# Altium schematic symbol library 2350514-3.SchLib: 1 symbol
Pins are listed as number, name and electrical type; pins without a type are passive.

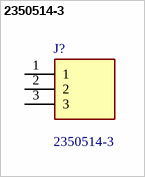
[diagram p0: symbol 2350514-3]

## 2350514-3
designator J?
Manufacturer_Name: TE Connectivity; Geometry.Height: 6.91mm; Manufacturer_Part_Number: 2350514-3; Mouser Part Number: 571-2350514-3; Mouser Price/Stock: https://www.mouser.co.uk/ProductDetail/TE-Connectivity/2350514-3?qs=wnTfsH77Xs4%252BXocSlHm5VQ%3D%3D; Arrow Part Number: 2350514-3; Arrow Price/Stock: https://www.arrow.com/en/products/2350514-3/te-connectivity?region=nac; Description: 2350514-3; Datasheet Link: https://www.te.com/commerce/DocumentDelivery/DDEController?Action=showdoc&DocId=Customer+Drawing%7F2350514%7FA%7Fpdf%7FEnglish%7FENG_CD_2350514_A.pdf%7F2350514-3
footprint SHDRRA3W90P0X350_1X3_1110X920X691P
pins: 1, 2, 3